# Altium footprint library kicanka_PCB.PcbLib: 2 footprints
Each footprint in its own frame and in the unit in brackets; x right, y up, seen from the top. Pads: shape width x height; smd on the part's side, far side on the other; paste and mask are expansions set on the pad; w line width, h text height; cw(c..) or ccw(c..) is an arc to the next point about the centre after c.
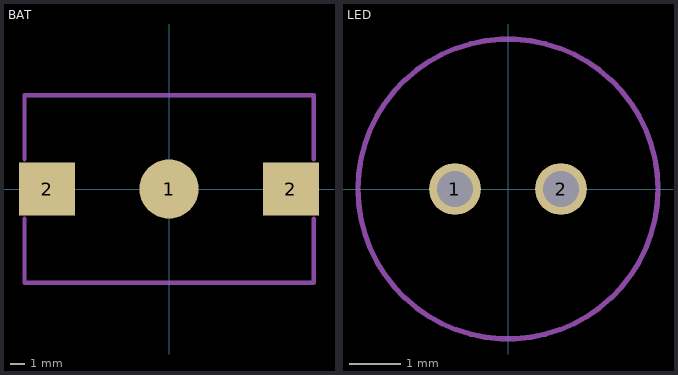
[diagram p0: the footprints below, top view; thin cyan lines are the x and y axes]

## BAT [mm]
pads (3):
  round 4 smd paste+0 mask+0: 1(0,0)
  rect 3.8x3.6 smd paste+0 mask+0: 2(-8.25,0) 2(8.25,0)
Mechanical 1:
  lines w0.3: -9.78,-2 -9.78,-6.35 9.78,-6.35 9.78,-2 ; -9.78,2 -9.78,6.35 9.78,6.35 9.78,2
3D body "User Library-BK-885-TR.step": height 3.17, standoff 0, extent -9.78,-6.35 9.78,6.35
3D body: height 1.96, standoff 1.9, extent 16.75,-4 16.75,-4
3D body "User Library-CR1220-2_refine_Cut001.sldprt": height 2.01, standoff 0.01, extent -6.2,-6.198 6.2,6.2

## LED [mm]
pads (2):
  round 1 hole 0.7 unplated paste+0 mask+0: 1(-1.025,0) 2(1.025,0)
Mechanical 1:
  circle w0.1: c0,0 r2.9
3D body: height 1.5, standoff 0, extent -2.9,-2.897 2.9,2.897